# Altium schematic symbol library Switch.SchLib: 13 symbols
Pins are listed as number, name and electrical type; pins without a type are passive.

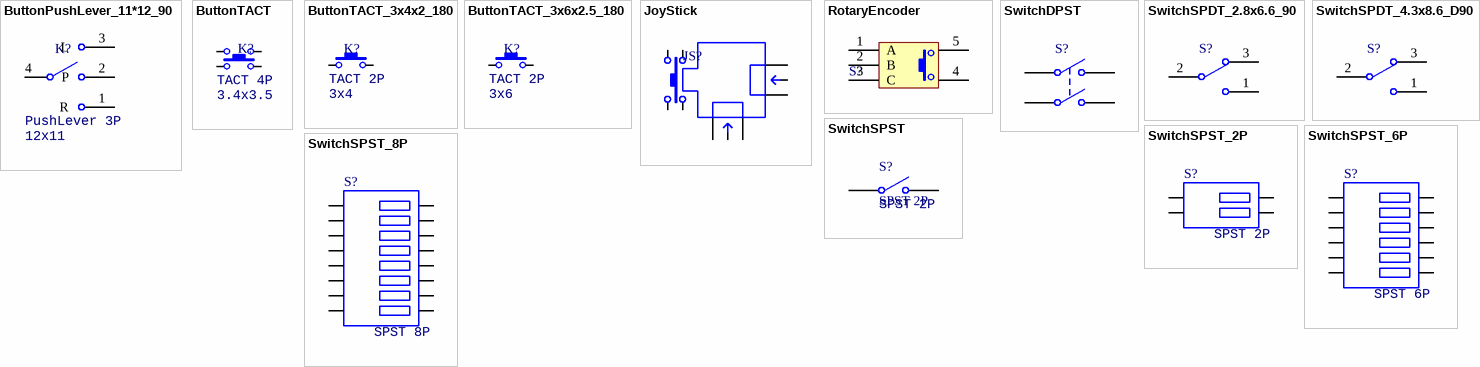
[diagram p0: symbols ButtonPushLever_11*12_90 to SwitchSPST_8P]

## ButtonPushLever_11*12_90
designator K?, comment value 12x11  (hidden comment: PushLever 3P)
Button; type: PushLever 3P
footprint ButtonPushLever_11*12_90
pins: 1 R  , 2 P  , 3 L  , 4

## ButtonTACT
designator K?, comment value 3.4x3.5  (hidden comment: TACT 4P)
Button; type: TACT 4P
footprint ButtonTACT_3.5*3.55_90
footprint ButtonTACT_3.4*3.5_90
pins: 1, 2, 3, 4

## ButtonTACT_3x4x2_180
designator K?, comment value 3x4  (hidden comment: TACT 2P)
Button; type: TACT 2P
footprint ButtonTACT_3x4x2_180
footprint ButtonTACT_3x4x2_180H
pins: 1, 2

## ButtonTACT_3x6x2.5_180
designator K?, comment value 3x6  (hidden comment: TACT 2P)
Button; type: TACT 2P
footprint ButtonTACT_3x6x2.5_180
pins: 1, 2

## JoyStick
designator JS?  (value not drawn)
footprint JoyStick
pins: 1, 2, 3, 4, 5, 6, 7, 8, 9, 10

## RotaryEncoder
designator S?  (value not drawn)
Encoder; Value: RotaryEncoder
footprint RotaryEncoder
pins: 1 A, 2 B, 3 C, 4, 5

## SwitchDPST
designator S?  (value not drawn)
Switch; Value: SwitchDPST; Type: DPST
footprint DPST-4 (Footprint not found)
pins: 1 COMMON1, 2 NO1, 3 COMMON2, 4 NO2

## SwitchSPDT_2.8x6.6_90
designator S?, comment SPDT 3P  (value not drawn)
Switch; Value: SPDT 3P; Type: SPDT
footprint SwitchSPDT_2.8X6.6_90
pins: 1, 2, 3

## SwitchSPDT_4.3x8.6_D90
designator S?, comment SPDT 3P  (value not drawn)
Switch; Value: SPDT 3P; Type: SPDT
footprint SwitchSPDT_4.3X8.6_D90
pins: 1, 2, 3

## SwitchSPST
designator S?, comment SPST 2P
Switch; Type: SPST; Value: SPST 2P
footprint SPST-2 (Footprint not found)
pins: 1 COMMON, 2 NO

## SwitchSPST_2P
designator S?, comment SPST 2P
Switch; Type: SPST; Value: SPST 2P
footprint SwitchSPDT_P2_180
pins: 1 COMMON, 1ON ON, 2 COMMON, 2ON NO

## SwitchSPST_6P
designator S?, comment SPST 6P
Switch; Type: SPST; Value: SPST 6P
footprint SwitchSPDT_P6_180
pins: 1 COMMON, 1ON ON, 2 COMMON, 2ON NO, 3 COMMON, 3ON NO, 4 COMMON, 4ON NO, 5 COMMON, 5ON NO, 6 COMMON, 6ON NO

## SwitchSPST_8P
designator S?, comment SPST 8P
Switch; Type: SPST; Value: SPST 8P
footprint SwitchSPDT_P8_180
pins: 1 COMMON, 1ON ON, 2 COMMON, 2ON NO, 3 COMMON, 3ON NO, 4 COMMON, 4ON NO, 5 COMMON, 5ON NO, 6 COMMON, 6ON NO, 7 COMMON, 7ON NO, 8 COMMON, 8ON NO